# EAGLE library part SI-46001-F (library SI-46001-F)
MAGJACK 1 PORT SHIELDED 10/100BT
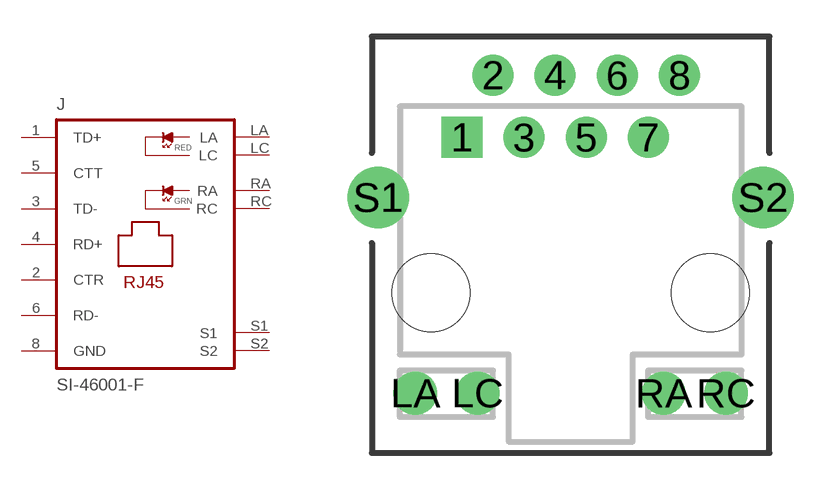
[diagram p0: symbol with the pads of SI-46001-F; footprint SI-46001-F]

Designator prefix J

## SI-46001-F (Availability: Unavailable; Description: 1 Port RJ45 Magjack Connector Through Hole 10/100 Base-T, AutoMDIX; MF: Stewart Connector; MP: SI-46001-F; Package: None; Price: None)  [SI-46001-F]
1  TD+  pas
2  CTR  pas
3  TD-  pas
4  RD+  pas
5  CTT  pas
6  RD-  pas
8  GND  pas
LA  LA  pas
LC  LC  pas
RA  RA  pas
RC  RC  pas
S1  S1  pas
S2  S2  pas

## Footprint SI-46001-F (pad centres in mm)
MAGJACK
drill 0.914 pad 1.676 square: 1 -4.445,6.35
drill 0.914 pad 1.676: 2 -3.175,8.89; 3 -1.905,6.35; 4 -0.635,8.89; 5 0.635,6.35; 6 1.905,8.89; 7 3.175,6.35; 8 4.445,8.89
drill 1.016 pad 1.778: LA -6.35,-4.115; LC -3.81,-4.115; RA 3.81,-4.115; RC 6.35,-4.115
drill 1.676: S1 -7.874,3.886; S2 7.874,3.886
hole 3.175 at -5.715,0
hole 3.175 at 5.715,0